# Altium footprint library 3-C-Ceramics.PcbLib: 89 footprints (part 3 of 6)
Each footprint in its own frame and in the unit in brackets; x right, y up, seen from the top. Pads: shape width x height; smd on the part's side, far side on the other; paste and mask are expansions set on the pad; w line width, h text height; cw(c..) or ccw(c..) is an arc to the next point about the centre after c.
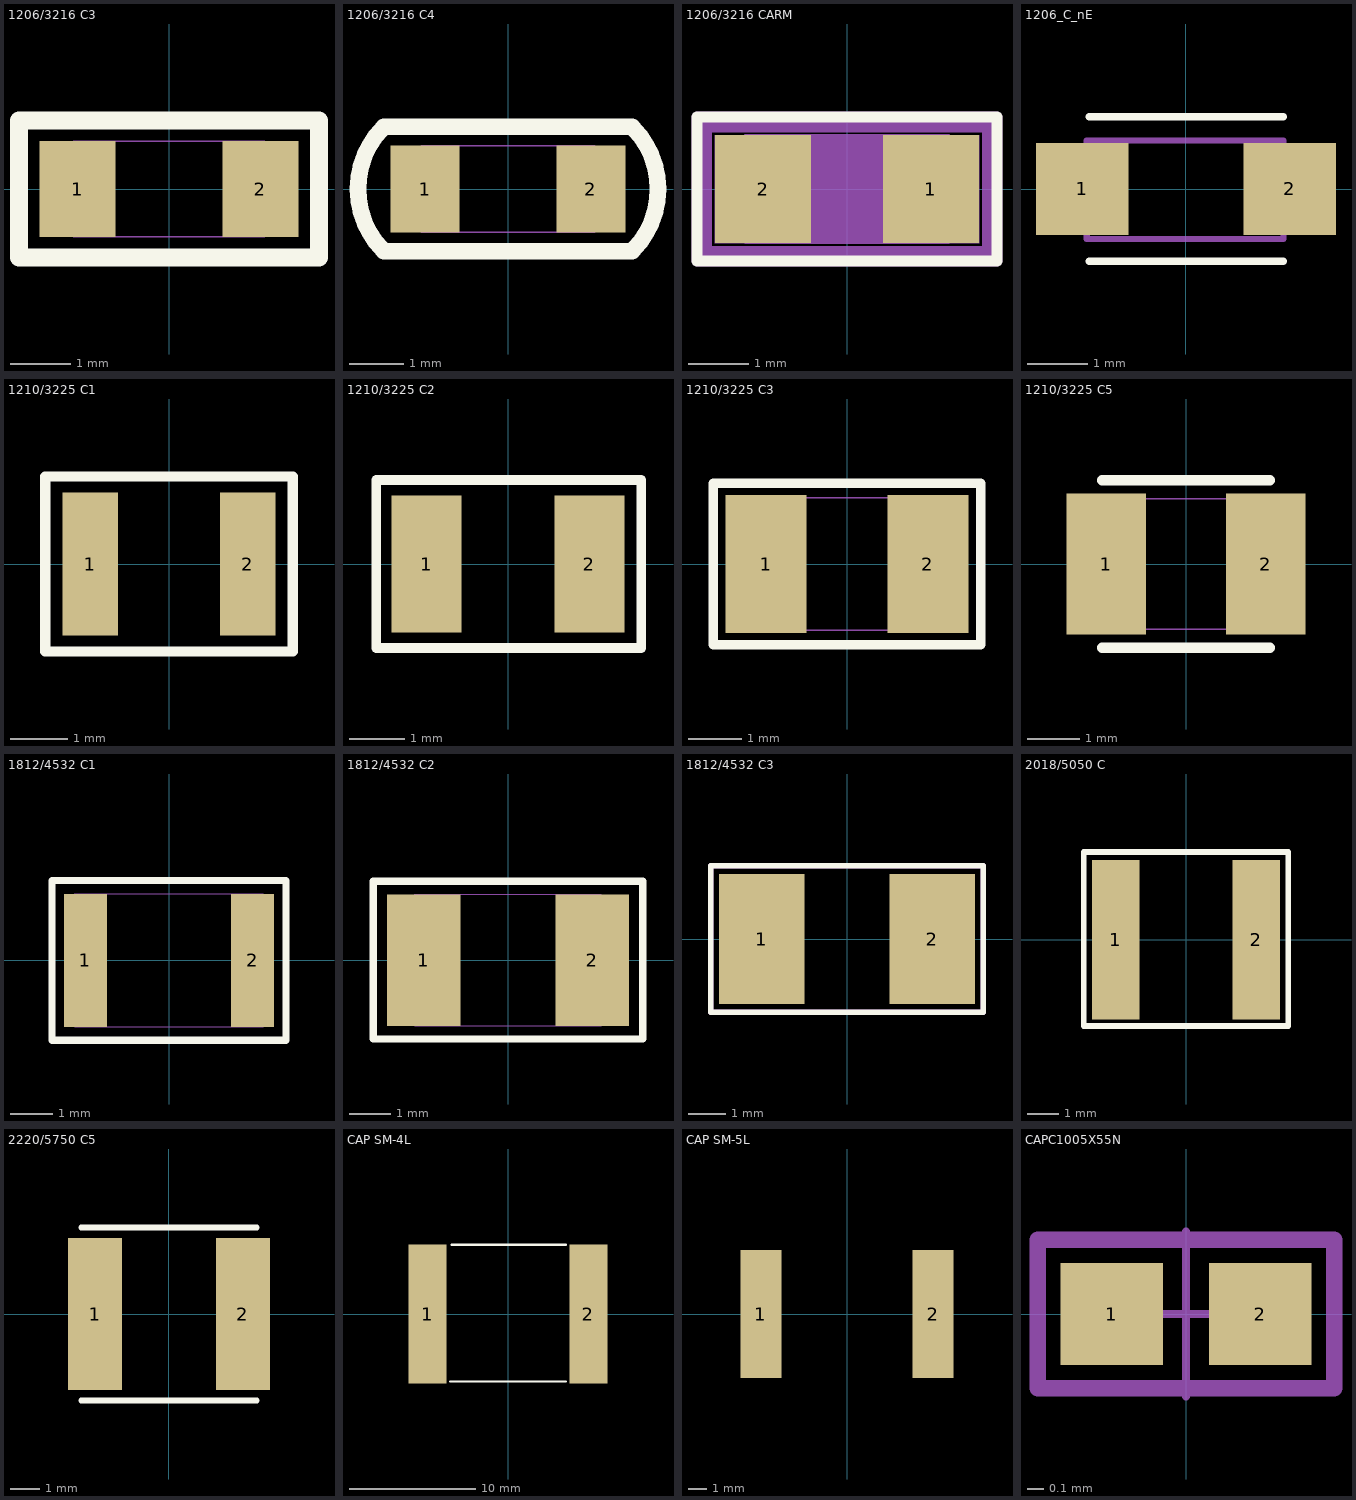
[diagram p2: the footprints below, top view; thin cyan lines are the x and y axes]

## 1206/3216 C3 [mil]
height 1771.65
pads (2):
  rect 50x63 smd: 1(-60,0)
  rect 50x63 smd mask+2.76: 2(60,0)
Top Overlay:
  lines w12: -98.5,-45 98.5,-45 98.5,45 -98.5,45 -98.5,-45
Mechanical 15:
  lines w1: -63,-31.5 63,-31.5 63,31.5 -63,31.5 -63,-31.5
3D body "1206-c.stp": height 62.99, standoff 0, extent -63,-31.5 62.98,31.49
3D body "1_6-1_27-1206a.stp": height 0.79, standoff 0, extent -85.5,-31.49 -35.5,31.5
3D body "1_6-1_27-1206a.stp": height 0.79, standoff 0, extent 35.01,-31.49 85,31.5

## 1206/3216 C4 [mil]
height 1771.65
pads (2):
  rect 50x63 smd: 1(-60,0)
  rect 50x63 smd mask+2.76: 2(60,0)
Top Overlay:
  lines w12: -90,-45 cw(c-45,0) -90,45 90,45 cw(c45,0) 90,-45 -90,-45
Mechanical 15:
  lines w1: -63,-31.5 63,-31.5 63,31.5 -63,31.5 -63,-31.5
3D body "1206-c.stp": height 62.99, standoff 0, extent -63,-31.5 62.98,31.49
3D body "1_6-1_27-1206a.stp": height 0.79, standoff 0, extent -85,-31.49 -35,31.5
3D body "1_6-1_27-1206a.stp": height 0.79, standoff 0, extent 35,-31.49 85,31.5

## 1206/3216 CARM [mm]
height 45
pads (2):
  rect 1.6x1.8 smd: 1(1.4,0) 2(-1.4,0)
Top Overlay:
  lines w0.18: 2.472,-1.2 -2.5,-1.2 -2.5,1.2 2.5,1.2 2.5,-1.2
Mechanical 7:
  lines w0.18: 2.472,-1.2 -2.5,-1.2 -2.5,1.2 2.5,1.2 2.5,-1.2
Mechanical 16:
  region: 2.2,-0.9 -2.2,-0.9 -2.2,0.9 2.2,0.9
  region: 2.4,0 2.25,0 2.25,-0.95 -2.25,-0.95 -2.25,0 -2.4,0 -2.4,-1.1 2.4,-1.1
  region: -2.4,0 -2.25,0 -2.25,0.95 2.25,0.95 2.25,0 2.4,0 2.4,1.1 -2.4,1.1
  pour cut-out: 0,-0.408 -0.156,-0.377 -0.288,-0.288 -0.377,-0.156 -0.408,0 -0.377,0.156 -0.288,0.288 -0.156,0.377 0,0.408 0.156,0.377 0.288,0.288 0.377,0.156 0.408,0 0.377,-0.156 0.288,-0.288 0.156,-0.377
  lines w0.025: -2.5,-1 2.5,-1 2.5,1 -2.5,1 -2.5,-1 ; -1.7,-0.9 -1.7,0.9 1.7,0.9 1.7,-0.9 -1.7,-0.9
Mechanical 18:
  text "2" at -1.4,0.2 h0.5
  text "1" at 1.4,0.2 h0.5
3D body "1206-arm.stp": height 0, standoff 0, extent 0.6,-0.9 2.2,0.9
3D body "1206-arm.stp": height 0, standoff 0, extent -2.2,-0.9 -0.6,0.9
3D body "1206-c.stp": height 1.6, standoff 0, extent -1.6,-0.8 1.6,0.8

## 1206_C_nE [mil]
height 1771.65
pads (2):
  rect 60x60 smd mask+2.76: 1(-67.5,0)
  rect 60x60 smd: 2(67.5,0)
Top Overlay:
  lines w5: -62.98,-47 63,-47 ; -62.98,47 63,47
Mechanical 15:
  lines w3.94: -64.5,-32.5 -64.5,31.5 63.5,31.5 63.5,-32.5 -64.5,-32.5
3D body "1_524-1_524.stp": height 0.79, standoff 0, extent 37.51,-29.99 97.51,30.01
3D body "1_524-1_524.stp": height 0.79, standoff 0, extent -97.49,-29.99 -37.49,30.01
3D body "1206-c.stp": height 62.99, standoff 0, extent -63,-31.5 62.98,31.49

## 1210/3225 C1 [mil]
height 1771.65
pads (2):
  rect 38x98 smd: 1(-54,0)
  rect 38x98 smd mask+2.76: 2(54,0)
Top Overlay:
  lines w7: -85,-60 85,-60 85,60 -85,60 -85,-60
3D body "0_965-2_489-1210.stp": height 0.79, standoff 0, extent 35.01,-48.99 73,49
3D body "0_965-2_489-1210.stp": height 0.79, standoff 0, extent -73.49,-48.99 -35.5,49
3D body "1210-c.stp": height 98.43, standoff 0, extent -63,-49 62.98,49.43

## 1210/3225 C2 [mil]
height 1771.65
pads (2):
  rect 50x98 smd: 1(-58,0)
  rect 50x98 smd mask+2.76: 2(58,0)
Top Overlay:
  lines w7: -94,-60 -94,60 95,60 95,-60 -94,-60
3D body "1_27-2_489-1210a.stp": height 0.79, standoff 0, extent 33,-48.99 83,49
3D body "1_27-2_489-1210a.stp": height 0.79, standoff 0, extent -83,-48.99 -33,49
3D body "1210-c.stp": height 98.43, standoff 0, extent -63,-49 62.98,49.43

## 1210/3225 C3 [mil]
height 1771.65
pads (2):
  rect 60x102.36 smd mask+2.76: 1(-60,0) 2(60,0)
Top Overlay:
  lines w7: -99,-60 99,-60 99,60 -99,60 -99,-60
Mechanical 15:
  lines w1: -63,-49 -63,49 63,49 63,-49 -63,-49
3D body "1_524-2_692-1210c.stp": height 0.79, standoff 0, extent -90,-52.99 -30,52.99
3D body "1_524-2_692-1210c.stp": height 0.79, standoff 0, extent 30,-52.99 90,53
3D body "1210-smdcap175.stp": height 59.06, standoff 0, extent -62.99,-49.21 62.99,49.21

## 1210/3225 C5 [mil]
height 1771.65
pads (2):
  rect 60x106 smd: 1(-60,0)
  rect 60x106 smd mask+2.76: 2(60,0)
Top Overlay:
  lines w7.87: -62.99,-62.99 62.99,-62.99 ; -62.99,62.99 62.99,62.99
Mechanical 15:
  lines w1: -63,-49 63,-49 63,49 -63,49 -63,-49
3D body "1_524-2_692-1210c.stp": height 0.79, standoff 0, extent 30,-52.99 90,53
3D body "1_524-2_692-1210c.stp": height 0.79, standoff 0, extent -90,-52.99 -30,52.99
3D body "1210-c.stp": height 98.43, standoff 0, extent -63,-49 62.98,49.43

## 1812/4532 C1 [mil]
height 1771.65
pads (2):
  rect 40x125 smd mask+2.76: 1(-78.5,0)
  rect 40x125 smd: 2(78.5,0)
Top Overlay:
  lines w7: -110,-75 110,-75 110,75 -110,75 -110,-75
Mechanical 16:
  lines w1: -88.5,-62.5 -88.5,62.5 88.5,62.5 88.5,-62.5 -88.5,-62.5
3D body "1812-175.stp": height 68.9, standoff 0, extent -88.59,-62.99 88.58,63
3D body "3_175-1_016-1812.stp": height 0.79, standoff 0, extent -98.5,-62.5 -58.5,62.5
3D body "3_175-1_016-1812.stp": height 0.79, standoff 0, extent 58.5,-62.5 98.5,62.5

## 1812/4532 C2 [mil]
height 1771.65
pads (2):
  rect 70x125 smd: 1(-80,0)
  rect 70x125 smd mask+2.76: 2(80,0)
Top Overlay:
  lines w7: -128,-75 -128,75 128,75 128,-75 -128,-75
Mechanical 16:
  lines w1: -88.5,-62.5 88.5,-62.5 88.5,62.5 -88.5,62.5 -88.5,-62.5
3D body "3_175-1_778-1812.stp": height 0.79, standoff 0, extent 45,-62.5 115,62.5
3D body "3_175-1_778-1812.stp": height 0.79, standoff 0, extent -115,-62.5 -45,62.5
3D body "1812-175.stp": height 68.9, standoff 0, extent -88.58,-62.99 88.58,62.99

## 1812/4532 C3 [mm]
height 45
pads (2):
  rect 2.3x3.5 smd: 1(-2.3,0) 2(2.3,0)
Top Overlay:
  lines w0.15: -3.683,-1.981 3.683,-1.981 3.683,1.981 -3.683,1.981 -3.683,-1.981
Mechanical 14:
  lines w0.15: -3.683,-1.981 3.683,-1.981 3.683,1.981 -3.683,1.981 -3.683,-1.981
Mechanical 15:
  lines w0.15: -3.683,-1.981 3.683,-1.981 3.683,1.981 -3.683,1.981 -3.683,-1.981
3D body "1812-175.stp": height 1.75, standoff 0, extent -2.25,-1.6 2.25,1.6
3D body "3_5-2_3-1812.stp": height 0.02, standoff 0, extent 1.149,-1.75 3.449,1.75
3D body "3_5-2_3-1812.stp": height 0.02, standoff 0, extent -3.449,-1.737 -1.149,1.763

## 2018/5050 C [mil]
pads (2):
  rect 60x200 smd: 1(-88,0)
  rect 60x200 smd mask+2.76: 2(88,0)
Top Overlay:
  lines w7: -128,-108 -128,110 128,110 128,-108 -128,-108
3D body "p508-152.stp": height 0.79, standoff 0, extent -117.92,-100 -58.08,100
3D body "p508-152.stp": height 0.79, standoff 0, extent 58.08,-100 117.92,100
3D body "2018-c.stp": height 118.11, standoff 0, extent -97,-99 99.85,97.85

## 2220/5750 C5 [mm]
height 45
pads (2):
  rect 1.85x5.2 smd: 1(-2.525,0) 2(2.525,0)
Top Overlay:
  lines w0.2: -3,-2.95 3,-2.95 ; -3,2.95 3,2.95
3D body "2220_5750.stp": height 2.5, standoff 0, extent -2.85,-2.5 2.85,2.5
3D body "1_85-5_2.stp": height 0.02, standoff 0, extent -3.45,-2.6 -1.6,2.6
3D body "1_85-5_2.stp": height 0.02, standoff 0, extent 1.6,-2.6 3.45,2.6

## CAP SM-4L [mm]
pads (2):
  rect 3x11 smd mask+0.07: 1(-6.35,0)
  rect 3x11 smd: 2(6.35,0)
Top Overlay:
  lines w0.178: -4.572,-5.334 4.572,-5.334 ; -4.445,5.461 4.572,5.461
3D body "sm4-l.stp": height 6.3, standoff 0, extent -7.261,-5.1 7.239,5.1
3D body "p1100-300.stp": height 0.02, standoff 0, extent 4.85,-5.525 7.85,5.475
3D body "p1100-300.stp": height 0.02, standoff 0, extent -7.901,-5.5 -4.901,5.5

## CAP SM-5L [mm]
pads (2):
  rect 2.2x6.8 smd mask+0.07: 1(-4.57,0)
  rect 2.2x6.8 smd: 2(4.57,0)
3D body "sm5-l.stp": height 8.15, standoff 0, extent -5.461,-3.175 5.461,3.175
3D body "p680-220.stp": height 0.02, standoff 0, extent 3.472,-3.4 5.672,3.4
3D body "p680-220.stp": height 0.02, standoff 0, extent -5.697,-3.4 -3.497,3.4

## CAPC1005X55N [mm] "Chip Capacitor, Body 1.0x0.55mm, IPC Medium Density"
height 0.55
pads (2):
  rect 0.62x0.62 smd: 1(-0.45,0) 2(0.45,0)
Mechanical 14:
  lines w0.1: -0.9,-0.45 0.9,-0.45 0.9,0.45 -0.9,0.45 -0.9,-0.45
Mechanical 15:
  lines w0.05: -0.5,0 0.5,0 ; 0,-0.5 0,0.5 ; -0.91,-0.46 0.91,-0.46 0.91,0.46 -0.91,0.46 -0.91,-0.46
3D body "CAPC1005X55N.stp": height 0.55, standoff 0, extent -0.525,-0.275 0.525,0.275
3D body "p062-062.stp": height 0.02, standoff 0, extent -0.767,-0.31 -0.147,0.31
3D body "p062-062.stp": height 0.02, standoff 0, extent 0.147,-0.31 0.767,0.31